# Altium footprint library TFcard.PcbLib: 1 footprints
Each footprint in its own frame and in the unit in brackets; x right, y up, seen from the top. Pads: shape width x height; smd on the part's side, far side on the other; paste and mask are expansions set on the pad; w line width, h text height; cw(c..) or ccw(c..) is an arc to the next point about the centre after c.
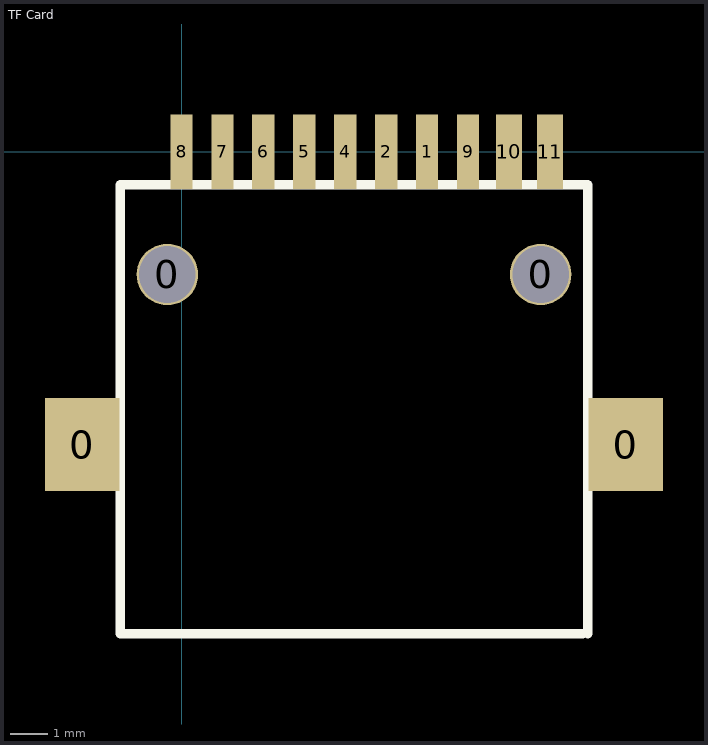
[diagram p0: the footprint, top view; thin cyan lines are the x and y axes]

## TF Card [mm]
pads (14):
  rect 2x2.5 smd: 0(-2.667,-7.874) 0(11.938,-7.874)
  round 1.651 hole 1.524: 0(-0.381,-3.302) 0(9.652,-3.302)
  rect 0.6x2 smd: 1(6.6,0) 2(5.5,0) 4(4.4,0) 5(3.3,0) 6(2.2,0) 7(1.1,0) 8(0,0) 9(7.7,0)
  rect 0.7x2 smd: 10(8.8,0) 11(9.9,0)
Top Overlay:
  lines w0.254: 10.784,-12.954 -1.651,-12.954 -1.651,-0.889 10.922,-0.889 10.922,-12.954